# EAGLE library part ETH10_100_TRANSFO (library TL-WR703N)
10/100Base Single Port Transformer Based on: H1601CG Datasheet <http://www.cptc.com.tw/product/doc/Single%20Port/H1601CG.pdf> Copyright © 2012, Michel Stempin, All rights reserved Licenced under Creative Commons CC BY-SA 3.0 <http://creativecommons.org/licenses/by-sa/3.0/deed.en> license.
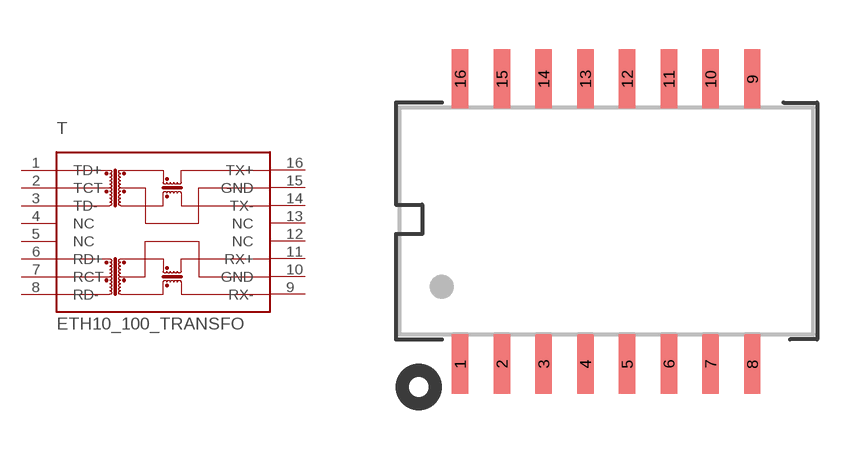
[diagram p2: symbol with the pads of H1601CG; footprint H1601CG]

Designator prefix T

## ETH10_100_TRANSFO  [H1601CG]
1  TD+  pas
2  TCT  pas
3  TD-  pas
4  NC  nc
5  NC  nc
6  RD+  pas
7  RCT  pas
8  RD-  pas
9  RX-  pas
10  GND  pwr
11  RX+  pas
12  NC  nc
13  NC  nc
14  TX-  pas
15  GND  pwr
16  TX+  pas

## Footprint H1601CG (pad centres in mm)
Compass Power Technology H1601CG 10/100Base Single Port Transformer Based on: H1601CG Datasheet <http://www.cptc.com.tw/product/doc/Single%20Port/H1601CG.pdf> Copyright © 2012, Michel Stempin, All rights reserved Licenced under Creative Commons CC BY-SA 3.0 <http://creativecommons.org/licenses/by-sa/3.0/deed.en> license.
smd 0.5 x 1.8: 1 -4.445,-4.35; 2 -3.175,-4.35; 3 -1.905,-4.35; 4 -0.635,-4.35; 5 0.635,-4.35; 6 1.905,-4.35; 7 3.175,-4.35; 8 4.445,-4.35; 9 4.445,4.325; 10 3.175,4.325; 11 1.905,4.325; 12 0.635,4.325; 13 -0.635,4.325; 14 -1.905,4.325; 15 -3.175,4.325; 16 -4.445,4.325